# Altium integrated library ERJU02F1241X.IntLib: 1 symbol
Pins are listed as number, name and electrical type; pins without a type are passive.

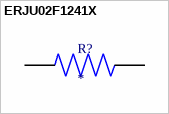
[diagram p0: symbol ERJU02F1241X]

## ERJU02F1241X
designator R?
MP: ERJU02F1241X; Availability: Unavailable; Price: None; Package: None; Value: *
footprint RES_ERJU02F1241X
pins: 1, 2